# Altium footprint library CON 90814-0826.PcbLib: 1 footprints
Each footprint in its own frame and in the unit in brackets; x right, y up, seen from the top. Pads: shape width x height; smd on the part's side, far side on the other; paste and mask are expansions set on the pad; w line width, h text height; cw(c..) or ccw(c..) is an arc to the next point about the centre after c.
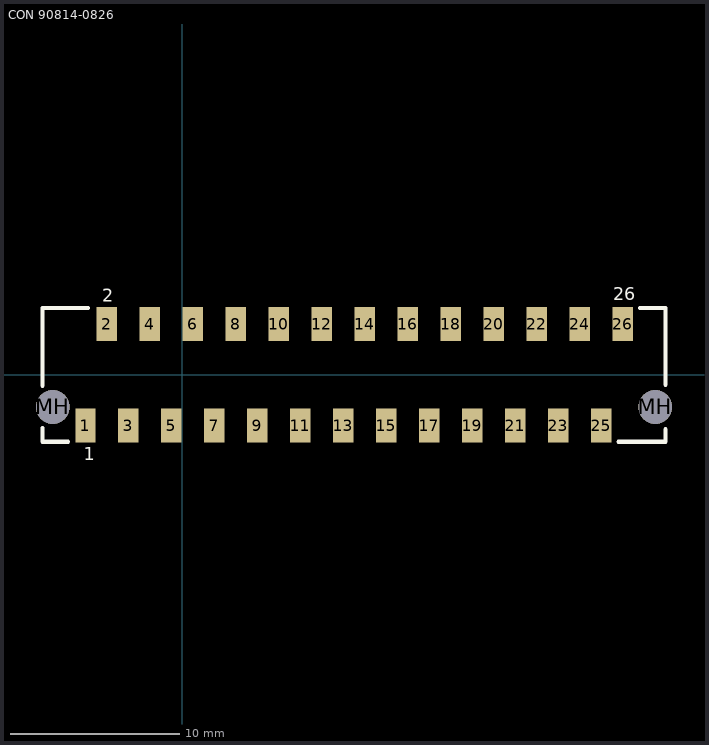
[diagram p0: the footprint, top view; thin cyan lines are the x and y axes]

## CON 90814-0826 [mm]
pads (28):
  rect 1.2x2 smd: 1(-5.71,-3) 2(-4.44,3) 3(-3.17,-3) 4(-1.9,3) 5(-0.63,-3) 6(0.64,3) 7(1.91,-3) 8(3.18,3) 9(4.45,-3) 10(5.72,3) 11(6.99,-3) 12(8.26,3) 13(9.53,-3) 14(10.8,3) 15(12.07,-3) 16(13.34,3) 17(14.61,-3) 18(15.88,3) 19(17.15,-3) 20(18.42,3) 21(19.69,-3) 22(20.96,3) 23(22.23,-3) 24(23.5,3) 25(24.77,-3) 26(26.04,3)
  round 2 hole 2 unplated: MH(-7.64,-1.9) MH(27.96,-1.9)
Top Overlay:
  lines w0.254: -8.24,-3.958 -8.24,-3.146 ; -8.24,-3.95 -6.74,-3.95 ; -8.24,-0.643 -8.24,3.95 -5.557,3.95 ; 25.784,-3.958 28.56,-3.958 28.56,-3.211 ; 27.06,3.95 28.56,3.95 28.56,-0.59
  text "26" at 25.489,4.39 h0.76
  text "2" at -4.718,4.311 h0.76
  text "1" at -5.819,-5.059 h0.76
3D body: height 5.1, standoff -1.3, extent -8.214,-3.588 28.586,3.312